# Altium schematic symbol library TSW-101-07-F-D.SchLib: 1 symbol
Pins are listed as number, name and electrical type; pins without a type are passive.

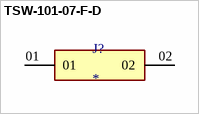
[diagram p0: symbol TSW-101-07-F-D]

## TSW-101-07-F-D
designator J?
MF: Samtec; MP: TSW-101-07-F-D; Package: None; Availability: Unavailable; Value: *; Price: None
footprint SAMTEC_TSW-101-07-F-D
pins: 01, 02